# Altium footprint library H0DR9.PcbLib: 24 footprints (part 1 of 2)
Each footprint in its own frame and in the unit in brackets; x right, y up, seen from the top. Pads: shape width x height; smd on the part's side, far side on the other; paste and mask are expansions set on the pad; w line width, h text height; cw(c..) or ccw(c..) is an arc to the next point about the centre after c.
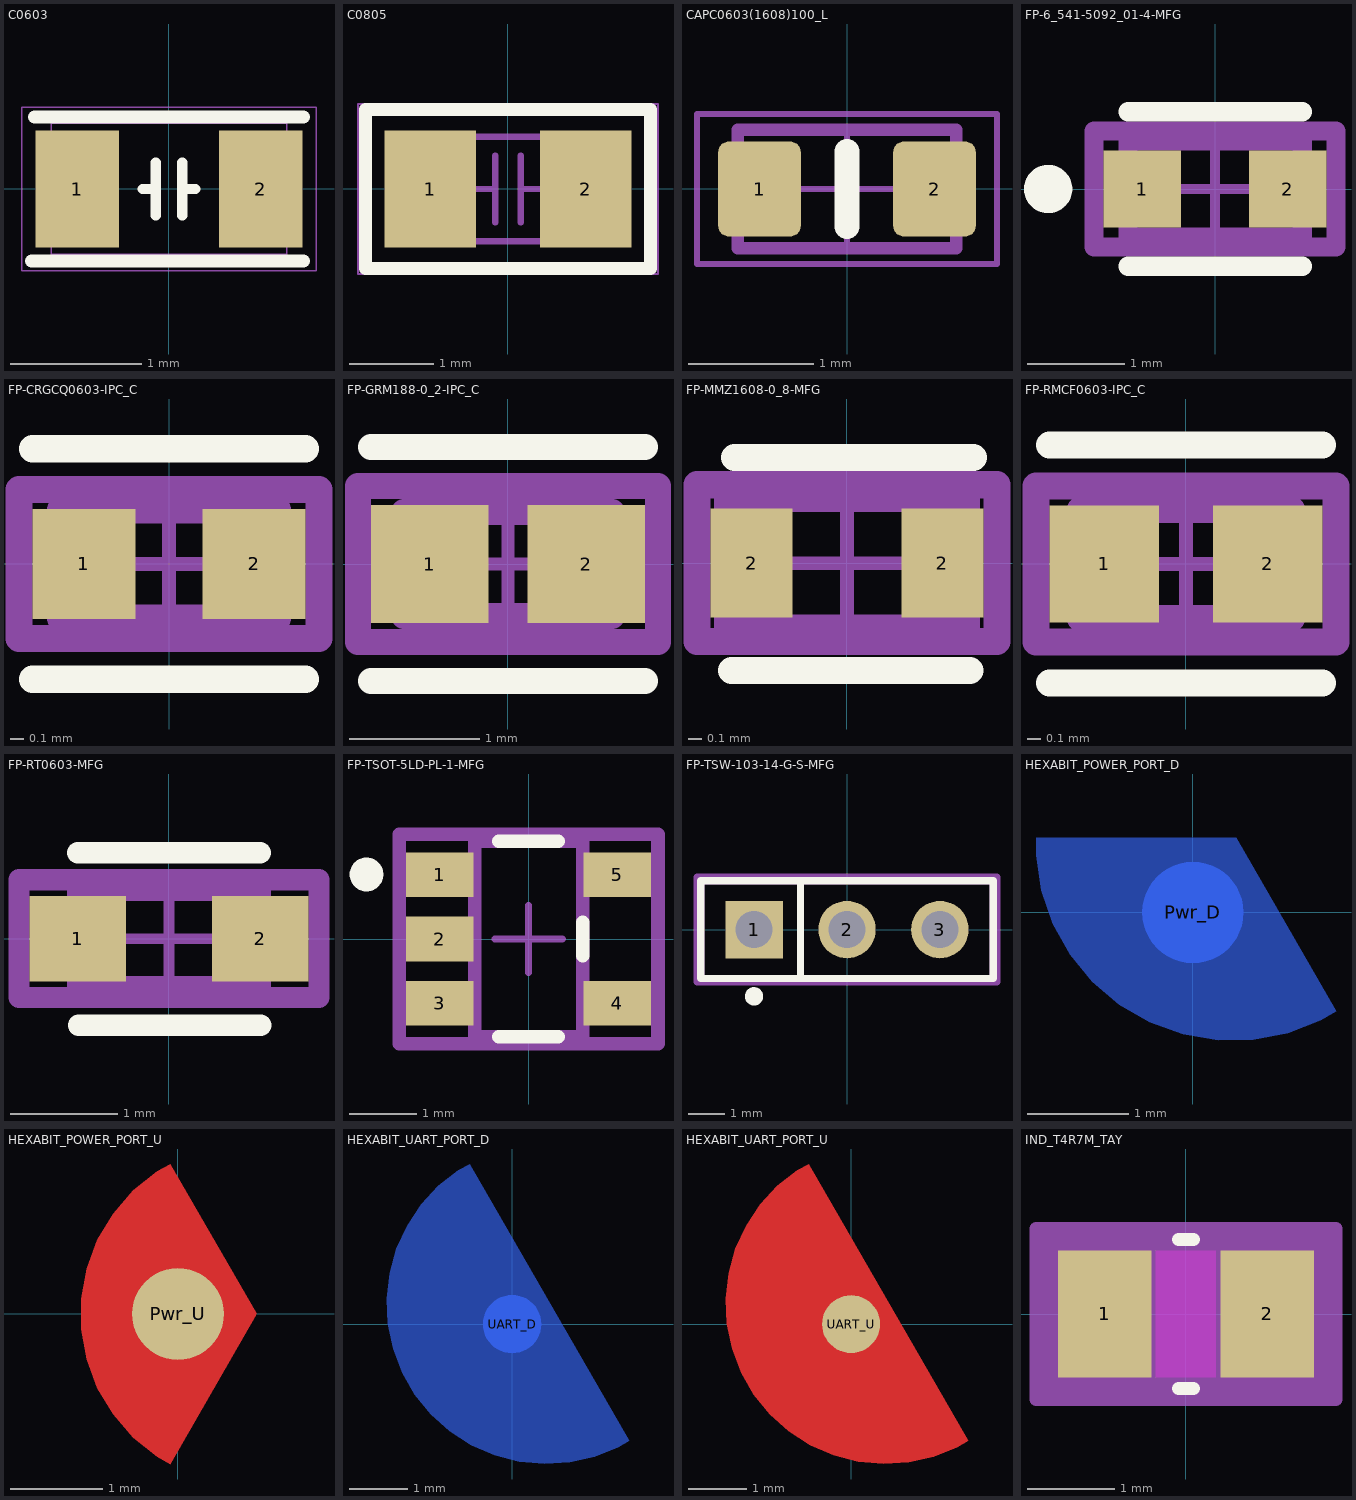
[diagram p0: the footprints below, top view; thin cyan lines are the x and y axes]

## C0603 [mm]
height 4.2
pads (2):
  rect 0.64x0.89 smd mask+0.05: 1(-0.7,0) 2(0.7,0)
Top Overlay:
  lines w0.08: -0.2,0 -0.1,0 ; -0.1,-0.2 -0.1,0.2 ; 0.1,-0.2 0.1,0.2 ; 0.1,0 0.2,0
  lines w0.1: -1.05,-0.55 1.025,-0.55 ; -1.025,0.55 1.025,0.55
Mechanical 14:
  lines w0.01: -0.9,-0.5 -0.9,0.5 0.9,0.5 0.9,-0.5 -0.9,-0.5
Mechanical 16:
  lines w0.01: -1.125,-0.625 1.125,-0.625 1.125,0.625 -1.125,0.625 -1.125,-0.625
3D body "C0603.STEP": height 0.5, standoff 0, extent -0.8,-0.4 0.8,0.4
3D body: height 1.4, standoff 0, extent -0.899,-0.499 0.899,0.499

## C0805 [mil]
height 165.35
pads (2):
  rect 43x55 smd: 1(-36.5,0) 2(36.5,0)
Top Overlay:
  lines w6: -66.93,-37.4 -66.93,37.4 -11.81,37.4 66.93,37.4 66.93,-37.4 -66.93,-37.4
Top Courtyard:
  lines w1: -39.37,-24.61 -39.37,24.61 39.37,24.61 39.37,-24.61 -39.37,-24.61
Top 3D Body:
  lines w1: -70.5,-40 -70.5,40 70.5,40 70.5,-40 -70.5,-40
Mechanical 32:
  text "2" at 26.5,0 h25
  text "1" at -46.5,0 h25
Mechanical33:
  lines w6: -66.93,-37.4 -66.93,37.4 -11.81,37.4 66.93,37.4 66.93,-37.4 -66.93,-37.4
  text "C40" at 73.5,-7.17 h25
Top Assembly:
  lines w3: -33.46,0 -5.91,0 ; -5.91,-15.75 -5.91,0 ; -5.91,15.75 -5.91,0 ; 5.91,-15.75 5.91,0 ; 5.91,15.75 5.91,0 ; 33.46,0 5.91,0 ; -39.37,-24.61 -39.37,24.61 39.37,24.61 39.37,-24.61 -39.37,-24.61
3D body "0805CAP.step": height 30.79, standoff 0, extent -39.21,-24.48 39.53,24.73

## CAPC0603(1608)100_L [mm] "Chip Capacitor, Body 1.6x0.8mm, Height 1.0mm, IPC High Density"
height 1
pads (2):
  rrect25% 0.66x0.76 smd: 1(-0.7,0) 2(0.7,0)
Top Overlay:
  lines w0.2: 0,-0.3 0,0.3
Top Designator:
  text ".Designator" at -1.27,-0.127 h0.6
Top Courtyard:
  lines w0.05: -0.475,0 0.475,0 ; 0,-0.475 0,0.475 ; -1.2,-0.6 1.2,-0.6 1.2,0.6 -1.2,0.6 -1.2,-0.6
Top Assembly:
  lines w0.1: -0.875,-0.475 -0.875,0.475 0.875,0.475 0.875,-0.475 -0.875,-0.475
3D body "CAPC1608X95N EIA 0603.STEP": height 0.95, standoff 0, extent -0.8,-0.4 0.8,0.4

## FP-6_541-5092_01-4-MFG [mm]
height 4.2
pads (2):
  rect 0.8x0.8 smd paste+0 mask+0: 1(-0.75,0) 2(0.75,0)
Top Overlay:
  circle w0.25: c-1.725,0 r0.125
  lines w0.2: -0.9,-0.8 0.9,-0.8 ; -0.9,0.8 0.9,0.8
Top Component Center:
  lines w0.1: -0.5,0 0.5,0 ; 0,-0.5 0,0.5
Top Courtyard:
  lines w0.2: -1.25,-0.6 -1.25,0.6 1.25,0.6 1.25,-0.6 -1.25,-0.6
Top 3D Body:
  lines w0.2: -0.9,-0.5 -0.9,0.5 0.9,0.5 0.9,-0.5 -0.9,-0.5
Top Assembly:
  lines w0.2: -1.25,-0.6 -1.25,0.6 1.25,0.6 1.25,-0.6 -1.25,-0.6
3D body "Diode_Vishay_VLMY1300-GS08_eec.STEP": height 0.25, standoff 0, extent -1.25,-0.6 1.25,0.6

## FP-CRGCQ0603-IPC_C [mm]
pads (2):
  rect 0.758x0.812 smd paste+0 mask+0: 1(-0.627,0) 2(0.627,0)
Top Overlay:
  lines w0.2: -1.006,-0.85 1.006,-0.85 ; -1.006,0.85 1.006,0.85
Top Component Center:
  lines w0.1: -0.5,0 0.5,0 ; 0,-0.5 0,0.5
Top Courtyard:
  lines w0.2: -1.106,-0.55 -1.106,0.55 1.106,0.55 1.106,-0.55 -1.106,-0.55
Top 3D Body:
  lines w0.2: -0.8,-0.4 -0.8,0.4 0.8,0.4 0.8,-0.4 -0.8,-0.4
Top Assembly:
  lines w0.2: -1.106,-0.55 -1.106,0.55 1.106,0.55 1.106,-0.55 -1.106,-0.55
  text ".Designator" at 0,0.188 h1
3D body "Res_TE_Connectivity_CRGCQ0603F12R_eec.STEP": height 0.55, standoff 0, extent -0.8,-0.4 0.8,0.4

## FP-GRM188-0_2-IPC_C [mm]
pads (2):
  rect 0.905x0.906 smd paste+0 mask+0: 1(-0.601,0) 2(0.601,0)
Top Overlay:
  lines w0.2: -1.053,-0.9 1.053,-0.9 ; -1.053,0.9 1.053,0.9
Top Component Center:
  lines w0.1: -0.5,0 0.5,0 ; 0,-0.5 0,0.5
Top Courtyard:
  lines w0.2: -1.153,-0.6 1.153,-0.6 1.153,0.6 -1.153,0.6 -1.153,-0.6
Top 3D Body:
  lines w0.2: -0.8,-0.4 0.8,-0.4 0.8,0.4 -0.8,0.4 -0.8,-0.4
Top Assembly:
  lines w0.2: -1.153,-0.6 1.153,-0.6 1.153,0.6 -1.153,0.6 -1.153,-0.6
  text ".Designator" at 0,0.188 h1
3D body "Cap_Murata_GRM188C71C225KE11D_eec.STEP": height 1, standoff 0, extent -0.8,-0.4 0.8,0.4

## FP-MMZ1608-0_8-MFG [mm]
height 4.2
pads (2):
  rect 0.6x0.8 smd paste+0 mask+0: 2(-0.7,0) 2(0.7,0)
Top Overlay:
  lines w0.2: -0.848,-0.787 0.902,-0.787 ; -0.825,0.775 0.925,0.775
Top Component Center:
  lines w0.1: -0.5,0 0.5,0 ; 0,-0.5 0,0.5
Top Courtyard:
  lines w0.2: -1.1,-0.575 1.1,-0.575 1.1,0.575 -1.1,0.575 -1.1,-0.575
Top 3D Body:
  lines w0.2: -0.875,-0.475 0.875,-0.475 0.875,0.475 -0.875,0.475 -0.875,-0.475
Top Assembly:
  lines w0.2: -1.1,-0.575 1.1,-0.575 1.1,0.575 -1.1,0.575 -1.1,-0.575
3D body "FBead_TDK_MMZ1608A182BTA00_eec.STEP": height 0.95, standoff 0, extent -0.8,-0.4 0.8,0.4

## FP-RMCF0603-IPC_C [mm]
pads (2):
  rect 0.806x0.858 smd paste+0 mask+0: 1(-0.601,0) 2(0.601,0)
Top Overlay:
  lines w0.2: -1.004,-0.875 1.004,-0.875 ; -1.004,0.875 1.004,0.875
Top Component Center:
  lines w0.1: -0.5,0 0.5,0 ; 0,-0.5 0,0.5
Top Courtyard:
  lines w0.2: -1.104,-0.575 1.104,-0.575 1.104,0.575 -1.104,0.575 -1.104,-0.575
Top 3D Body:
  lines w0.2: -0.775,-0.4 0.775,-0.4 0.775,0.4 -0.775,0.4 -0.775,-0.4
Top Assembly:
  lines w0.2: -1.104,-0.575 1.104,-0.575 1.104,0.575 -1.104,0.575 -1.104,-0.575
  text ".Designator" at 0,0.188 h1
3D body "Res_Stackpole_Electronics_RMCF0603JT1M80_eec.STEP": height 0.55, standoff 0, extent -0.775,-0.4 0.775,0.4

## FP-RT0603-MFG [mm]
pads (2):
  rect 0.9x0.8 smd paste+0 mask+0: 1(-0.85,0) 2(0.85,0)
Top Overlay:
  lines w0.2: -0.85,0.8 0.85,0.8 ; -0.845,-0.807 0.855,-0.807
Top Component Center:
  lines w0.1: -0.5,0 0.5,0 ; 0,-0.5 0,0.5
Top Courtyard:
  lines w0.2: -1.4,-0.55 1.4,-0.55 1.4,0.55 -1.4,0.55 -1.4,-0.55
Top 3D Body:
  lines w0.2: -0.85,-0.45 0.85,-0.45 0.85,0.45 -0.85,0.45 -0.85,-0.45
Top Assembly:
  lines w0.2: -1.4,-0.55 1.4,-0.55 1.4,0.55 -1.4,0.55 -1.4,-0.55
  text ".Designator" at 0,0.188 h1
3D body "Res_Yageo_RT0603CRE0724K3L_eec.STEP": height 0.58, standoff 0, extent -0.761,-0.399 0.839,0.401

## FP-TSOT-5LD-PL-1-MFG [mm]
pads (5):
  rect 1x0.66 smd paste+0 mask+0: 1(-1.315,0.95) 2(-1.315,0) 3(-1.315,-0.95) 4(1.315,-0.95) 5(1.315,0.95)
Top Overlay:
  circle w0.25: c-2.4,0.955 r0.125
  lines w0.2: -0.44,-1.45 0.44,-1.45 ; -0.44,1.45 0.44,1.45 ; 0.8,-0.245 0.8,0.245
Top Component Center:
  lines w0.1: -0.5,0 0.5,0 ; 0,-0.5 0,0.5
Top Courtyard:
  lines w0.2: -1.915,-1.55 1.915,-1.55 1.915,1.55 -1.915,1.55 -1.915,-1.55
Top 3D Body:
  lines w0.2: -0.8,-1.45 0.8,-1.45 0.8,1.45 -0.8,1.45 -0.8,-1.45
Top Assembly:
  lines w0.2: -1.915,-1.55 1.915,-1.55 1.915,1.55 -1.915,1.55 -1.915,-1.55
  text ".Designator" at 0,0 h1
3D body "IC_Microchip_MIC2288YD5-TR_eec.STEP": height 1, standoff 0, extent -1.4,-1.45 1.4,1.45

## FP-TSW-103-14-G-S-MFG [mm]
height 4.2
pads (3):
  rect 1.57x1.57 hole 1.02 paste-2539.97 mask+0: 1(-2.54,0)
  round 1.57 hole 1.02 paste-2539.97 mask+0: 2(0,0) 3(2.54,0)
Top Overlay:
  circle w0.25: c-2.54,-1.825 r0.125
  lines w0.2: -1.27,-1.335 -1.27,1.335 ; -4,-1.335 4,-1.335 4,1.335 -4,1.335 -4,-1.335
Top Component Center:
  lines w0.1: -0.5,0 0.5,0 ; 0,-0.5 0,0.5
Top Courtyard:
  lines w0.2: -4.1,-1.435 4.1,-1.435 4.1,1.435 -4.1,1.435 -4.1,-1.435
Top 3D Body:
  lines w0.2: -4,-1.335 4,-1.335 4,1.335 -4,1.335 -4,-1.335
Top Assembly:
  lines w0.2: -4.1,-1.435 4.1,-1.435 4.1,1.435 -4.1,1.435 -4.1,-1.435
3D body "Conn_Samtec_TSW-103-14-G-S_eec.STEP": height 0.25, standoff 0, extent -4.1,-1.435 4.1,1.435

## HEXABIT_POWER_PORT_D [mm]
pads (1):
  rrect100% 1x1 smd far side paste+0: Pwr_D(0,0)
Bottom Layer:
  region: 1.418,-0.978 1.269,-1.069 0.942,-1.195 0.599,-1.262 0.249,-1.266 -0.096,-1.207 -0.425,-1.089 -0.728,-0.914 -0.995,-0.687 -1.217,-0.417 -1.388,-0.112 -1.501,0.219 -1.554,0.565 -1.549,0.74 0.429,0.74
Bottom Solder:
  region: 1.418,-0.978 1.269,-1.069 0.942,-1.195 0.599,-1.262 0.249,-1.266 -0.096,-1.207 -0.425,-1.089 -0.728,-0.914 -0.995,-0.687 -1.217,-0.417 -1.388,-0.112 -1.501,0.219 -1.554,0.565 -1.549,0.74 0.429,0.74

## HEXABIT_POWER_PORT_U [mm]
pads (1):
  rrect100% 1x1 smd paste+0: Pwr_U(0,0)
Top Layer:
  region: -0.081,-1.631 -0.228,-1.552 -0.487,-1.343 -0.706,-1.092 -0.876,-0.806 -0.993,-0.494 -1.052,-0.167 -1.052,0.167 -0.993,0.494 -0.876,0.806 -0.706,1.092 -0.487,1.343 -0.228,1.552 -0.081,1.631 0.858,0
Top Solder:
  region: -0.081,-1.631 -0.228,-1.552 -0.487,-1.343 -0.706,-1.092 -0.876,-0.806 -0.993,-0.494 -1.052,-0.167 -1.052,0.167 -0.993,0.494 -0.876,0.806 -0.706,1.092 -0.487,1.343 -0.228,1.552 -0.081,1.631 0.858,0

## HEXABIT_UART_PORT_D [mm]
pads (1):
  rrect100% 1x1 smd far side paste+0: UART_D(0,0)
Bottom Layer:
  region: 2.018,-2.008 1.83,-2.121 1.424,-2.285 0.997,-2.382 0.559,-2.41 0.123,-2.369 -0.301,-2.259 -0.702,-2.084 -1.071,-1.847 -1.398,-1.555 -1.674,-1.215 -1.893,-0.835 -2.049,-0.426 -2.138,0.003 -2.159,0.441 -2.11,0.876 -1.992,1.298 -1.81,1.696 -1.566,2.061 -1.268,2.382 -0.923,2.652 -0.731,2.758
Bottom Solder:
  region: 1.518,-1.138 1.369,-1.23 1.04,-1.351 0.693,-1.405 0.343,-1.388 0.003,-1.302 -0.314,-1.151 -0.593,-0.94 -0.826,-0.677 -1.001,-0.373 -1.113,-0.041 -1.157,0.307 -1.13,0.657 -1.035,0.994 -0.874,1.306 -0.655,1.58 -0.386,1.804 -0.232,1.888

## HEXABIT_UART_PORT_U [mm]
pads (1):
  rrect100% 1x1 smd paste+0: UART_U(0,0)
Top Layer:
  region: 2.018,-2.008 1.83,-2.121 1.424,-2.285 0.997,-2.382 0.559,-2.41 0.123,-2.369 -0.301,-2.259 -0.702,-2.084 -1.071,-1.847 -1.398,-1.555 -1.674,-1.215 -1.893,-0.835 -2.049,-0.426 -2.138,0.003 -2.159,0.441 -2.11,0.876 -1.992,1.298 -1.81,1.696 -1.566,2.061 -1.268,2.382 -0.923,2.652 -0.731,2.758
Top Solder:
  region: 1.518,-1.138 1.369,-1.23 1.04,-1.351 0.693,-1.405 0.343,-1.388 0.003,-1.302 -0.314,-1.151 -0.593,-0.94 -0.826,-0.677 -1.001,-0.373 -1.113,-0.041 -1.157,0.307 -1.13,0.657 -1.035,0.994 -0.874,1.306 -0.655,1.58 -0.386,1.804 -0.232,1.888

## IND_T4R7M_TAY [mil]
pads (2):
  rect 42x57 smd paste+0 mask+0: 1(-36.5,0) 2(36.5,0)
Top Layer keep-out:
  region: -13.5,-26.5 -13.5,26.5 13.5,26.5 13.5,-26.5
Top Overlay:
  lines w6: -3.39,-33.5 3.39,-33.5 ; -3.39,33.5 3.39,33.5
Keep-Out Layer:
  region: -13.5,-28.5 -13.5,28.5 13.5,28.5 13.5,-28.5
Mechanical 13:
  lines w1: -43.5,-28.5 -43.5,28.5 ; -43.5,-28.5 43.5,-28.5 ; -43.5,-28.5 -15.5,-28.5 -15.5,28.5 -43.5,28.5 ; -43.5,-28.5 -43.5,28.5 ; -43.5,28.5 43.5,28.5 ; 43.5,-28.5 43.5,28.5 ; 43.5,-28.5 43.5,28.5 ; 43.5,-28.5 15.5,-28.5 15.5,28.5 43.5,28.5
  text ".Designator" at -137.5,-25 h50
Mechanical 15:
  region: 67.5,-38.5 -67.5,-38.5 -67.5,38.5 67.5,38.5
  lines w6: -67.5,-38.5 67.5,-38.5 67.5,38.5 -67.5,38.5 -67.5,-38.5
3D body "IND_T4R7M_TAY.step": height 39.02, standoff 0, extent -43.5,-28.5 43.5,28.5